# Altium schematic symbol library CAP_1206.SchLib: 1 symbol
Pins are listed as number, name and electrical type; pins without a type are passive.

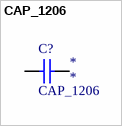
[diagram p0: symbol CAP_1206]

## CAP_1206
designator C?
Value: *; Tolerance: *
footprint CAPC1206(3216)100_N (Chip Capacitor, Body 3.2x1.6mm, Height 1mm, IPC Medium Density)
footprint CAPC1206(3216)100_N (Chip Capacitor, Body 3.2x1.6mm, Height 1mm, IPC Medium Density)
pins: 1, 2
1 alternate drawing of the same symbol